# EAGLE library part F303K8 (library F303K8)
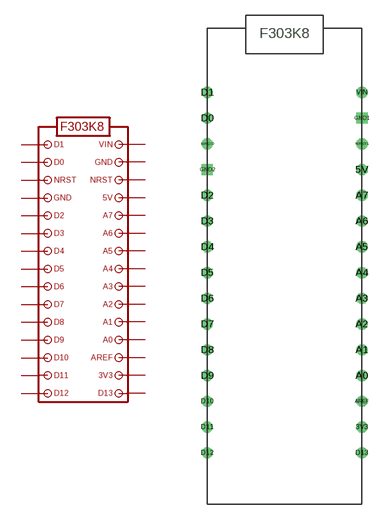
[diagram p0: symbol with the pads of F303K8; footprint F303K8]

Designator prefix -

## F303K8  [F303K8]
3V3  3V3
5V  5V
A0  A0
A1  A1
A2  A2
A3  A3
A4  A4
A5  A5
A6  A6
A7  A7
AREF  AREF
D0  D0
D1  D1
D2  D2
D3  D3
D4  D4
D5  D5
D6  D6
D7  D7
D8  D8
D9  D9
D10  D10
D11  D11
D12  D12
D13  D13
GND1  GND1
GND2  GND2
NRST1  NRST1
NRST2  NRST2
VIN  VIN

## Footprint F303K8 (pad centres in mm)
drill 0.6: 3V3 15.24,7.62; A0 15.24,12.7; A1 15.24,15.24; A2 15.24,17.78; A3 15.24,20.32; A4 15.24,22.86; A5 15.24,25.4; A6 15.24,27.94; A7 15.24,30.48; AREF 15.24,10.16; D0 0,38.1; D1 0,40.64; D2 0,30.48; D3 0,27.94; D4 0,25.4; D5 0,22.86; D6 0,20.32; D7 0,17.78; D8 0,15.24; D9 0,12.7; D10 0,10.16; D11 0,7.62; D12 0,5.08; D13 15.24,5.08; NRST1 15.24,35.56; NRST2 0,35.56; VIN 15.24,40.64
drill 0.6 octagon: 5V 15.24,33.02
drill 0.6 square: GND1 15.24,38.1; GND2 0,33.02